# EAGLE library part RHS_PIN (library ME433LIB)
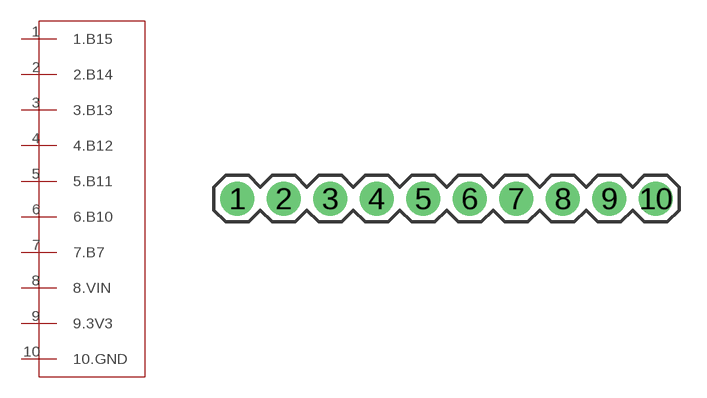
[diagram p10: symbol with the pads of RHSPIN; footprint RHSPIN]

Designator prefix -

## RHS_PIN  [RHSPIN]
1  1.B15
2  2.B14
3  3.B13
4  4.B12
5  5.B11
6  6.B10
7  7.B7
8  8.VIN
9  9.3V3
10  10.GND

## Footprint RHSPIN (pad centres in mm)
drill 1.016 pad 1.88: 1 -11.43,0; 2 -8.89,0; 3 -6.35,0; 4 -3.81,0; 5 -1.27,0; 6 1.27,0; 7 3.81,0; 8 6.35,0; 9 8.89,0; 10 11.43,0